# Altium schematic symbol library General.SchLib: 173 symbols (part 1 of 4)
Pins are listed as number, name and electrical type; pins without a type are passive.

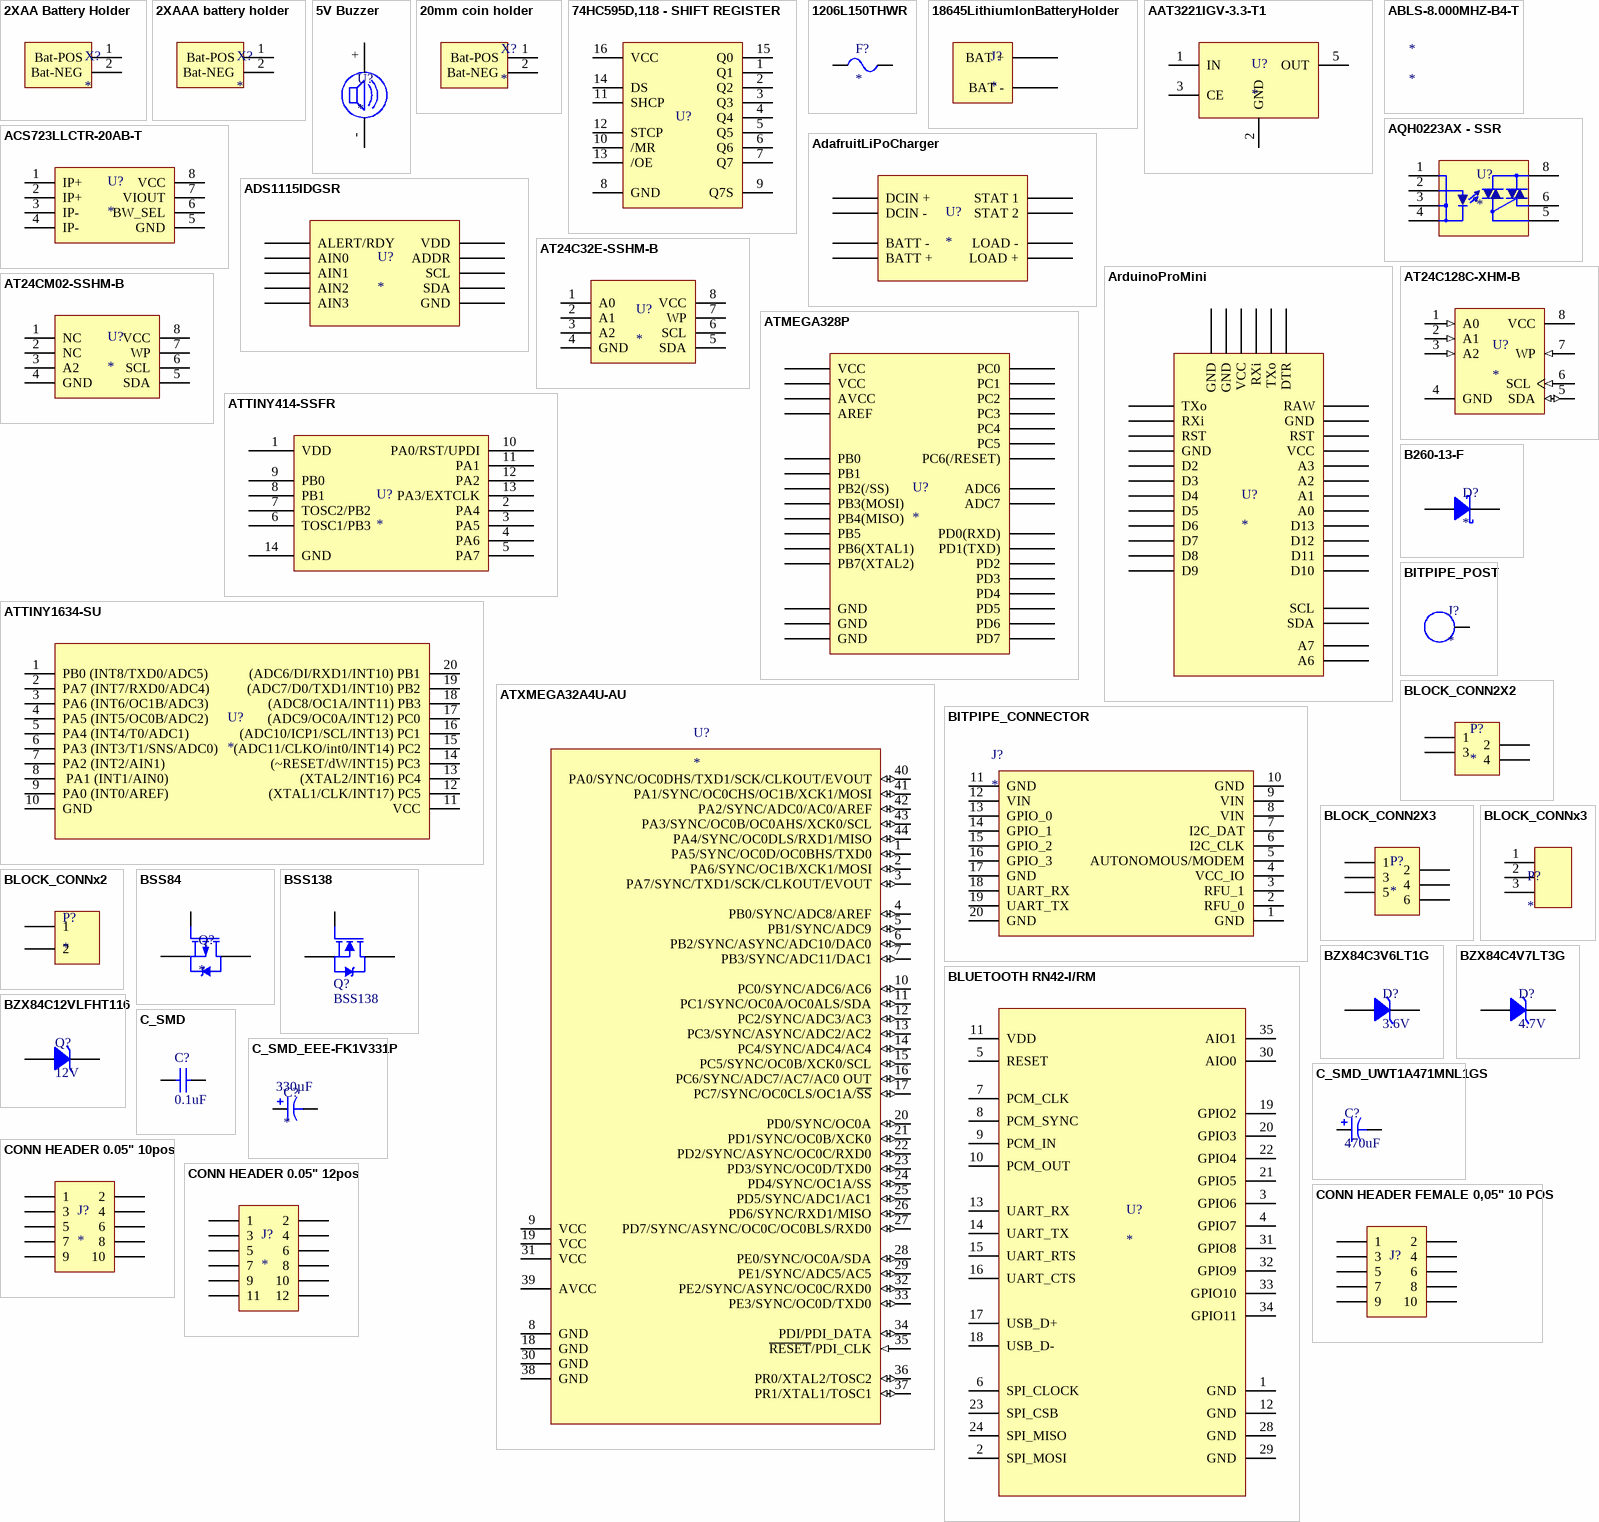
[diagram p0: symbols 2XAA Battery Holder to CONN HEADER FEMALE 0,05" 10 POS]

## 2XAA Battery Holder
designator X?
HOLDER BATT 2-AA CELLS PC MNT; Manufacturer: MPD (Memory Protection Devices); Manufacturer Part Number: BC2AAPC; Battery Type, Function: Cylindrical, Holder; Style: Holder (Open); Battery Cell Size: AA; Number of Cells: 2; Supplier 1: Digi-Key; RoHS: RoHS Compliant; Category: Battery Products; Stock 1: 43322; Pricing 1: 1=1.12, 10=1.022, 100=0.9292, 500=0.7979, 1000=0.7373 (USD); Part Status: Active; Battery Series: -; Mounting Type: PCB, Through Hole; Termination Style: PC Pin; Height Above Board: 0.591" (15.01mm); Operating Temperature: -10°C ~ 100°C; ComponentLink1URL: http://www.memoryprotectiondevices.com/datasheets/BC2AAPC-datasheet.pdf; ComponentLink1Description: http://www.memoryprotectiondevices.com/datasheets/BC2AAPC-datasheet.pdf; Supplier Part Number 1: BC2AAPC-ND
footprint 2xAA battery holder
pins: 1 Bat-POS, 2 Bat-NEG

## 2XAAA battery holder
designator X?
HOLDER BATTERY 2CELL AAA PC MNT; Manufacturer: Keystone Electronics; Manufacturer Part Number: 2468; Battery Type, Function: Cylindrical, Holder; Style: Holder (Open); Number of Cells: 2; Supplier 1: Digi-Key; RoHS: RoHS Compliant; Category: Battery Products; Stock 1: 5344; Pricing 1: 1=1.51, 10=0.968, 50=0.8728, 100=0.8349, 250=0.759, 500=0.6831, 1000=0.63748, 2500=0.56952, 5000=0.53449 (USD); Part Status: Active; Battery Cell Size: AAA; Battery Series: -; Mounting Type: PCB, Through Hole; Termination Style: PC Pin; Height Above Board: 0.512" (13.00mm); Operating Temperature: -; ComponentLink1URL: http://www.keyelco.com/product-pdf.cfm?p=1033; ComponentLink1Description: http://www.keyelco.com/product-pdf.cfm?p=1033; Supplier Part Number 1: 36-2468-ND
footprint 2xAAA battery holder
pins: 1 Bat-POS, 2 Bat-NEG

## 5V Buzzer
designator U?
AUDIO MAGNETIC INDICATOR 4-7V TH; Manufacturer: PUI Audio, Inc.; Manufacturer Part Number: AI-1223-TWT-5V-5-R; Driver Circuitry: Indicator, Internally Driven; Input Type: DC; Voltage Range: 4 ~ 7V; Frequency: 2.3kHz; Operating Mode: Single Tone; Sound Pressure Level (SPL): 85dB @ 5V, 10cm; Current - Supply: 30mA; Port Location: Top; Ratings: Washable; Supplier 1: Digi-Key; RoHS: RoHS Compliant; Category: Audio Products; Stock 1: 11924; Pricing 1: 1=1.41, 10=1.117, 25=1.0176, 50=0.9516, 100=0.8855, 250=0.80852, 500=0.7535, 1000=0.704, 5000=0.6875 (USD); Packaging: Tray; Part Status: Active; Technology: Magnetic; Duration: -; Operating Temperature: -20°C ~ 70°C; Approvals: -; Mounting Type: Through Hole; Termination: PC Pins; Size / Dimension: 0.472" Dia (12.00mm); Height - Seated (Max): 0.382" (9.70mm); ComponentLink1URL: http://www.puiaudio.com/pdf/AI-1223-TWT-5V-5-R.pdf; ComponentLink1Description: http://www.puiaudio.com/pdf/AI-1223-TWT-5V-5-R.pdf; Supplier Part Number 1: 668-1458-ND
footprint buzzer
pins: +, -

## 20mm coin holder
designator X?
HOLDER BATTERY 20MM COIN; Manufacturer: Linx Technologies Inc.; Manufacturer Part Number: BAT-HLD-001; Battery Type, Function: Coin Cell, Retainer; Style: Retainer; Battery Cell Size: Coin, 20.0mm; Number of Cells: 1; Battery Series: 2025, 2032; Supplier 1: Digi-Key; RoHS: RoHS Compliant; Category: Battery Products; Stock 1: 32677; Pricing 1: 1=0.28, 25=0.2568, 100=0.233, 1000=0.22875 (USD); Mounting Type: PCB, Surface Mount; Termination Style: SMD (SMT) Tab; Height Above Board: 0.165" (4.20mm); Operating Temperature: -; ComponentLink1URL: https://www.linxtechnologies.com/resources/diagrams/bat-hld-001.pdf; ComponentLink1Description: https://www.linxtechnologies.com/resources/diagrams/bat-hld-001.pdf; Supplier Part Number 1: BAT-HLD-001-ND
footprint coin-battery-holder
pins: 1 Bat-POS, 2 Bat-NEG

## 74HC595D,118 - SHIFT REGISTER
designator U?  (value not drawn)
IC SHIFT REGISTER 8BIT 16SOIC; Manufacturer: Nexperia USA Inc.; Manufacturer Part Number: 74HC595D,118; Output Type: Tri-State; Function: Serial to Parallel, Serial; Voltage - Supply: 2 V ~ 6 V; Supplier 1: Digi-Key; RoHS: RoHS Compliant; Category: Integrated Circuits (ICs); Stock 1: 160750; Pricing 1: 1=0.44, 10=0.334, 100=0.2132, 500=0.14998, 1000=0.1184 (USD); Packaging: Cut Tape (CT); Part Status: Active; Logic Type: Shift Register; Operating Temperature: -40°C ~ 125°C; Mounting Type: Surface Mount; Package / Case: 16-SOIC (0.154", 3.90mm Width); Supplier Device Package: 16-SO; Base Part Number: 74HC595; ComponentLink1URL: https://assets.nexperia.com/documents/data-sheet/74HC_HCT595.pdf; ComponentLink1Description: https://assets.nexperia.com/documents/data-sheet/74HC_HCT595.pdf; Supplier Part Number 1: 1727-2821-1-ND
footprint SO16_M (SOIC, 16-Leads, Body 9.90x3.90mm, Pitch 1.27mm, IPC Low Density)
footprint SO16_L (SOIC, 16-Leads, Body 9.90x3.90mm, Pitch 1.27mm, IPC High Density)
footprint SO16_N (SOIC, 16-Leads, Body 9.90x3.90mm, Pitch 1.27mm, IPC Medium Density)
pins: 1 Q1, 2 Q2, 3 Q3, 4 Q4, 5 Q5, 6 Q6, 7 Q7, 8 GND, 9 Q7S, 10 /MR, 11 SHCP, 12 STCP, 13 /OE, 14 DS, 15 Q0, 16 VCC

## 1206L150THWR
designator F?
FUSE PTC RESET 8V 1.50A 1206; Manufacturer: Littelfuse Inc; Manufacturer Part Number: 1206L150THWR; Current - Max: 100A; Current - Hold (Ih) (Max): 1.5A; Current - Trip (It): 3A; R Min/Max: 0.040 ~ 0.120 Ohm; Time to Trip: 0.3s; Supplier 1: Digi-Key; RoHS: RoHS Compliant; Category: Circuit Protection; Stock 1: 8140; Pricing 1: 1=0.49, 10=0.462, 25=0.4256, 50=0.3892, 100=0.3234, 250=0.294, 500=0.2492, 1000=0.2198 (USD); Packaging: Cut Tape (CT); Voltage - Max: 8V; Package / Case: 1206 (3216 Metric), Concave, Long Side Terminals; ComponentLink1URL: http://www.littelfuse.com/~/media/electronics/datasheets/resettable_ptcs/littelfuse_ptc_1206l_datasheet.pdf.pdf; ComponentLink1Description: http://www.littelfuse.com/~/media/electronics/datasheets/resettable_ptcs/littelfuse_ptc_1206l_datasheet.pdf.pdf; Supplier Part Number 1: F3372CT-ND
footprint R1206_L (Chip Resistor, 2-Leads, Body 3,13x1,55mm, IPC High Density)
footprint R1206_M (Chip Resistor, 2-Leads, Body 3,13x1,60mm, IPC Low Density)
footprint R1206_N (Chip Resistor, 2-Leads, Body 3,13x1,55mm, IPC Medium Density)
pins: 1, 2

## 18645LithiumIonBatteryHolder
designator J?
footprint 18650_lithium_ion_battery_holder
pins: + BAT +, - BAT -

## AAT3221IGV-3.3-T1
designator U?
IC REG LDO 3.3V 0.15A SOT23-5; Manufacturer: Skyworks Solutions Inc; Manufacturer Part Number: AAT3221IGV-3.3-T1; Regulator Topology: Positive Fixed; Current - Output: 150mA; Voltage - Dropout (Typical): 0.18V @ 100mA; Number of Regulators: 1; Voltage - Input: Up to 5.5V; Supplier 1: Digi-Key; RoHS: RoHS Compliant; Category: Integrated Circuits (ICs); Stock 1: 55137; Pricing 1: 1=0.17, 100=0.15 (USD); Packaging: Cut Tape (CT); Voltage - Output: 3.3V; Current - Limit (Min): -; Operating Temperature: -40°C ~ 85°C; Mounting Type: Surface Mount; Package / Case: SC-74A, SOT-753; Supplier Device Package: SOT-23-5; ComponentLink1URL: http://www.skyworksinc.com/uploads/documents/AAT3221_AAT3222_202251B.pdf; ComponentLink1Description: http://www.skyworksinc.com/uploads/documents/AAT3221_AAT3222_202251B.pdf; Supplier Part Number 1: 863-1491-1-ND
footprint SOT-23-OT5_L (SOT23, 5-Leads, Body 2.9x1.6mm, Pitch 0.95mm, Lead Span 2.7mm, IPC High Density)
footprint SOT-23-OT5_M (SOT23, 5-Leads, Body 2.9x1.6mm, Pitch 0.95mm, Lead Span 2.7mm, IPC Low Density)
footprint SOT-23-OT5_N (SOT23, 5-Leads, Body 2.9x1.6mm, Pitch 0.95mm, Lead Span 2.7mm, IPC Medium Density)
pins: 1 IN, 2 GND, 3 CE, 5 OUT

## ABLS-8.000MHZ-B4-T
designator *
CRYSTAL 8.0000MHZ 18PF SMD

## ACS723LLCTR-20AB-T
designator U?
SENSOR CURRENT HALL 20A AC/DC; Manufacturer: Allegro MicroSystems, LLC; Manufacturer Part Number: ACS723LLCTR-20AB-T; Sensor Type: Hall Effect, Open Loop; Output: Ratiometric, Voltage; Sensitivity: 100mV/A; Frequency: DC ~ 80kHz; Linearity: ±1%; Accuracy: ±3%; Voltage - Supply: 5V; Response Time: 5µs; Current - Supply (Max): 14mA; Polarization: Bidirectional; Supplier 1: Digi-Key; RoHS: RoHS Compliant; Category: Sensors, Transducers; Stock 1: 1390; Pricing 1: 1=5.54, 5=4.886, 10=4.316, 25=3.5012, 50=3.0942, 100=3.0128, 500=2.52426, 1000=2.3614 (USD); Packaging: Cut Tape (CT); Part Status: Active; For Measuring: AC/DC; Current - Sensing: 20A; Operating Temperature: -40°C ~ 150°C; Mounting Type: Surface Mount; Package / Case: 8-SOIC (0.154", 3.90mm Width); Supplier Device Package: 8-SOIC; ComponentLink1URL: https://www.allegromicro.com/~/media/Files/Datasheets/ACS723-Datasheet.ashx; ComponentLink1Description: https://www.allegromicro.com/~/media/Files/Datasheets/ACS723-Datasheet.ashx; Supplier Part Number 1: 620-1644-1-ND
footprint SOIC8_L (SOIC, 8-Leads, Body 4.90x3.90mm, Pitch 1.27mm, IPC High Density)
footprint SOIC8_M (SOIC, 8-Leads, Body 4.90x3.90mm, Pitch 1.27mm, IPC Low Density)
footprint SOIC8_N (SOIC, 8-Leads, Body 4.90x3.90mm, Pitch 1.27mm, IPC Medium Density)
pins: 1 IP+, 2 IP+, 3 IP-, 4 IP-, 5 GND, 6 BW_SEL, 7 VIOUT, 8 VCC

## AdafruitLiPoCharger
designator U?
footprint Adafruit_Lipo_Charger
pins: 1 LOAD +, 2 LOAD -, 3 STAT 2, 4 STAT 1, 5 BATT +, 6 BATT -, 7 DCIN -, 8 DCIN +

## ADS1115IDGSR
designator U?
IC ADC 16BIT 860SPS LP 10MSOP; Manufacturer: Texas Instruments; Manufacturer Part Number: ADS1115IDGSR; Number of Bits: 16; Sampling Rate (Per Second): 860; Number of Inputs: 2, 4; Input Type: Differential, Single Ended; Data Interface: I²C; Configuration: MUX-PGA-ADC; Number of A/D Converters: 1; Architecture: Sigma-Delta; Reference Type: Internal; Voltage - Supply, Analog: 2 V ~ 5.5 V; Supplier 1: Digi-Key; RoHS: RoHS Compliant; Category: Integrated Circuits (ICs); Stock 1: 3291; Pricing 1: 1=5.65, 10=5.074, 100=4.1576, 500=3.53928, 1000=2.98494 (USD); Packaging: Digi-Reel®; Part Status: Active; Ratio - S/H:ADC: -; Voltage - Supply, Digital: 2 V ~ 5.5 V; Features: PGA, Selectable Address; Operating Temperature: -40°C ~ 125°C; Package / Case: 10-TFSOP, 10-MSOP (0.118", 3.00mm Width); Supplier Device Package: 10-VSSOP; ComponentLink1URL: http://www.ti.com/lit/ds/symlink/ads1113.pdf; ComponentLink1Description: http://www.ti.com/lit/ds/symlink/ads1113.pdf; Supplier Part Number 1: 296-38849-6-ND
footprint VSSOP_10_L (TSSOP, 10-Leads, Body 3.00x3.00mm, Pitch 0.50mm, IPC High Density)
footprint VSSOP_10_M (TSSOP, 10-Leads, Body 3.00x3.00mm, Pitch 0.50mm, IPC Low Density)
footprint VSSOP_10_N (TSSOP, 10-Leads, Body 3.00x3.00mm, Pitch 0.50mm, IPC Medium Density)
pins: 1 ADDR, 2 ALERT/RDY, 3 GND, 4 AIN0, 5 AIN1, 6 AIN2, 7 AIN3, 8 VDD, 9 SDA, 10 SCL

## AQH0223AX - SSR
designator U?
SSR RELAY SPST-NO 300MA 0-600V; Manufacturer: Panasonic Electric Works; Manufacturer Part Number: AQH0223AX; Circuit: SPST-NO (1 Form A); Output Type: AC; Voltage - Input: 1.21VDC; Supplier 1: Digi-Key; RoHS: RoHS Compliant; Category: Relays; Stock 1: 940; Pricing 1: 1=1.06, 10=0.99, 25=0.88, 50=0.836, 100=0.792, 250=0.704, 500=0.66, 1000=0.616, 5000=0.594 (USD); Packaging: Tube; Part Status: Active; Mounting Type: Surface Mount; Termination Style: Gull Wing; Package / Case: 8-SMD (0.300", 7.62mm), 7 Leads; Supplier Device Package: 8-SMD; ComponentLink1URL: https://www3.panasonic.biz/ac/e_download/control/relay/solid-state/catalog/semi_eng_aqh.pdf; ComponentLink1Description: https://www3.panasonic.biz/ac/e_download/control/relay/solid-state/catalog/semi_eng_aqh.pdf; Supplier Part Number 1: 255-5993-ND
pins: 1 -, 2 -, 3 -, 4 -, 5 -, 6 -, 8 -

## ArduinoProMini
designator U?
footprint ArdunioProMini
pins: 1 D9, 2 D8, 3 D7, 4 D6, 5 D5, 6 D4, 7 D3, 8 D2, 9 GND, 10 RST, 11 RXi, 12 TXo, 13 GND, 14 GND, 15 VCC, 16 RXi, 17 TXo, 18 DTR, 19 RAW, 20 GND, 21 RST, 22 VCC, 23 A3, 24 A2, 25 A1, 26 A0, 27 D13, 28 D12, 29 D11, 30 D10, 31 A6, 32 A7, 33 SDA, 34 SCL

## AT24C32E-SSHM-B
designator U?
1.7-3.6V 1MHZ IND TMP 8-SOIC-N; Manufacturer: Atmel; Manufacturer Part Number: AT24C32E-SSHM-B; Format - Memory: EEPROMs - Serial; Memory Type: EEPROM; Memory Size: 32K (4K x 8); Speed: 400kHz, 1MHz; Interface: I²C, 2-Wire Serial; Voltage - Supply: 1.7 V ~ 3.6 V; Supplier 1: Digi-Key; RoHS: RoHS Compliant; Category: Integrated Circuits (ICs); Stock 1: 1215; Pricing 1: 1=0.42, 10=0.416, 25=0.3868, 50=0.3844, 100=0.3415, 250=0.33708, 500=0.33204, 1000=0.32315 (USD); Packaging: Tube; Operating Temperature: -40°C ~ 85°C (TC); Package / Case: 8-SOIC (0.154", 3.90mm Width); Supplier Device Package: 8-SOIC; ComponentLink1URL: http://www.atmel.com/Images/Atmel-8905-SEEPROM-AT24C32E-Datasheet.pdf; ComponentLink1Description: http://www.atmel.com/Images/Atmel-8905-SEEPROM-AT24C32E-Datasheet.pdf; Supplier Part Number 1: AT24C32E-SSHM-B-ND
footprint SOIC-8_N (SOIC, 8-Leads, Body 4.90x3.90mm, Pitch 1.27mm, IPC Medium Density)
pins: 1 A0, 2 A1, 3 A2, 4 GND, 5 SDA, 6 SCL, 7 WP, 8 VCC

## AT24C128C-XHM-B
designator U?
IC EEPROM 128KBIT 1MHZ 8TSSOP; Manufacturer: Atmel; Manufacturer Part Number: AT24C128C-XHM-B; Format - Memory: EEPROMs - Serial; Memory Size: 128K (16K x 8); Speed: 400kHz, 1MHz; Interface: I²C, 2-Wire Serial; Voltage - Supply: 1.7 V ~ 5.5 V; Supplier 1: Digi-Key; RoHS: RoHS Compliant; Category: Integrated Circuits (ICs); Stock 1: 6121; Pricing 1: 1=0.79, 10=0.717, 25=0.708, 50=0.704, 100=0.6294, 250=0.62392, 500=0.61484, 1000=0.59267 (USD); Packaging: Bulk; Memory Type: EEPROM; Operating Temperature: -40°C ~ 85°C; Package / Case: 8-TSSOP (0.173", 4.40mm Width); Supplier Device Package: 8-TSSOP; ComponentLink1URL: http://www.atmel.com/Images/doc8734.pdf; ComponentLink1Description: http://www.atmel.com/Images/doc8734.pdf; Supplier Part Number 1: AT24C128C-XHM-B-ND
footprint 8A2_L (TSOP, 8-Leads, Body 3x4.4mm, Pitch 0.65mm, IPC High Density)
footprint 8A2_M (TSOP, 8-Leads, Body 3x4.4mm, Pitch 0.65mm, IPC Low Density)
footprint 8A2_N (TSOP, 8-Leads, Body 3x4.4mm, Pitch 0.65mm, IPC Medium Density)
pins: 1 A0 (in), 2 A1 (in), 3 A2 (in), 4 GND (power), 5 SDA (io), 6 SCL (in), 7 WP (in), 8 VCC (power)

## AT24CM02-SSHM-B
designator U?
IC EEPROM 2M I2C 1MHZ 8SOIC; Manufacturer: Microchip Technology; Manufacturer Part Number: AT24CM02-SSHM-B; Memory Type: Non-Volatile; Memory Size: 2Mb (256K x 8); Write Cycle Time - Word, Page: 10ms; Memory Interface: I²C; Voltage - Supply: 1.7 V ~ 5.5 V; Supplier 1: Digi-Key; RoHS: RoHS Compliant; Category: Integrated Circuits (ICs); Stock 1: 6194; Pricing 1: 1=2.13, 10=1.913, 25=1.8824, 100=1.6776 (USD); Packaging: Tube; Part Status: Active; Memory Format: EEPROM; Technology: EEPROM; Operating Temperature: -40°C ~ 85°C (TC); Mounting Type: Surface Mount; Package / Case: 8-SOIC (0.154", 3.90mm Width); Supplier Device Package: 8-SOIC; Base Part Number: AT24CM02; ComponentLink1URL: http://www.microchip.com/mymicrochip/filehandler.aspx?ddocname=en589710; ComponentLink1Description: http://www.microchip.com/mymicrochip/filehandler.aspx?ddocname=en589710; Supplier Part Number 1: AT24CM02-SSHM-B-ND
footprint SOIC-8_N (SOIC, 8-Leads, Body 4.90x3.90mm, Pitch 1.27mm, IPC Medium Density)
pins: 1 NC, 2 NC, 3 A2, 4 GND, 5 SDA, 6 SCL, 7 WP, 8 VCC

## ATMEGA328P
designator U?
IC MCU 8BIT 32KB FLASH 32TQFP; Manufacturer: Microchip Technology; Manufacturer Part Number: ATMEGA328PB-AN; Core Processor: AVR; Core Size: 8-Bit; Speed: 20MHz; Connectivity: I²C, SPI, UART/USART; Peripherals: Brown-out Detect/Reset, POR, PWM, WDT; Program Memory Size: 32KB (16K x 16); EEPROM Size: 1K x 8; RAM Size: 2K x 8; Voltage - Supply (Vcc/Vdd): 1.8 V ~ 5.5 V; Data Converters: A/D 8x10b; Oscillator Type: Internal; Supplier 1: Digi-Key; RoHS: RoHS Compliant; Category: Integrated Circuits (ICs); Stock 1: 760; Pricing 1: 1=1.41, 25=1.298, 100=1.1742 (USD); Packaging: Tray; Part Status: Active; Program Memory Type: FLASH; Operating Temperature: -40°C ~ 105°C (TA); Package / Case: 32-TQFP; Supplier Device Package: 32-TQFP (7x7); Base Part Number: ATMEGA328; ComponentLink1URL: http://www.microchip.com/mymicrochip/filehandler.aspx?ddocname=en589666; ComponentLink1Description: http://www.microchip.com/mymicrochip/filehandler.aspx?ddocname=en589666; Supplier Part Number 1: ATMEGA328PB-AN-ND
footprint TQFP32_L (TQFP, 32-Leads, Body 7.00x7.00mm, Pitch 0.80mm, IPC High Density)
footprint TQFP32_M (TQFP, 32-Leads, Body 7.00x7.00mm, Pitch 0.80mm, IPC Low Density)
footprint TQFP32_N (TQFP, 32-Leads, Body 7.00x7.00mm, Pitch 0.80mm, IPC Medium Density)
pins: 1 PD3, 2 PD4, 3 GND, 4 VCC, 5 GND, 6 VCC, 7 PB6(XTAL1), 8 PB7(XTAL2), 9 PD5, 10 PD6, 11 PD7, 12 PB0, 13 PB1, 14 PB2(/SS), 15 PB3(MOSI), 16 PB4(MISO), 17 PB5, 18 AVCC, 19 ADC6, 20 AREF, 21 GND, 22 ADC7, 23 PC0, 24 PC1, 25 PC2, 26 PC3, 27 PC4, 28 PC5, 29 PC6(/RESET), 30 PD0(RXD), 31 PD1(TXD), 32 PD2

## ATTINY414-SSFR
designator U?
IC; Manufacturer: Microchip Technology; Manufacturer Part Number: ATTINY414-SSFR; Core Processor: AVR; Core Size: 8-Bit; Speed: 20MHz; Connectivity: I²C, IrDA, LINbus, SPI, UART/USART; Peripherals: Brown-out Detect/Reset, POR, WDT; Program Memory Size: 4KB (4K x 8); Program Memory Type: FLASH; EEPROM Size: 128 x 8; RAM Size: 256 x 8; Voltage - Supply (Vcc/Vdd): 1.8 V ~ 5.5 V; Data Converters: A/D 10x10b, D/A 1x8b; Oscillator Type: Internal; Supplier 1: Digi-Key; RoHS: RoHS Compliant; Category: Integrated Circuits (ICs); Stock 1: 1344; Pricing 1: 1=0.58, 25=0.5252, 100=0.4738 (USD); Packaging: Cut Tape (CT); Part Status: Active; Operating Temperature: -40°C ~ 125°C (TA); Package / Case: 14-SOIC (0.154", 3.90mm Width); Supplier Device Package: 14-SOIC; ComponentLink1URL: http://www.microchip.com/mymicrochip/filehandler.aspx?ddocname=en599397; ComponentLink1Description: http://www.microchip.com/mymicrochip/filehandler.aspx?ddocname=en599397; Supplier Part Number 1: ATTINY414-SSFRCT-ND
footprint SOIC14_L (SOIC, 14-Leads, Body 8.63x3.90mm, Pitch 1.27mm, IPC High Density)
footprint SOIC14_M (SOIC, 14-Leads, Body 8.63x3.90mm, Pitch 1.27mm, IPC Low Density)
footprint SOIC14_N (SOIC, 14-Leads, Body 8.63x3.90mm, Pitch 1.27mm, IPC Medium Density)
pins: 1 VDD, 2 PA4, 3 PA5, 4 PA6, 5 PA7, 6 TOSC1/PB3, 7 TOSC2/PB2, 8 PB1, 9 PB0, 10 PA0/RST/UPDI, 11 PA1, 12 PA2, 13 PA3/EXTCLK, 14 GND

## ATTINY1634-SU
designator U?
IC MCU 8BIT 16KB FLASH 20SOIC; Manufacturer: Atmel; Manufacturer Part Number: ATTINY1634-SU; Core Processor: AVR; Core Size: 8-Bit; Speed: 12MHz; Connectivity: I²C, SPI, UART/USART, USI; Peripherals: Brown-out Detect/Reset, POR, PWM, WDT; Number of I /O: 18; Program Memory Size: 16KB (16K x 8); EEPROM Size: 256 x 8; RAM Size: 1K x 8; Voltage - Supply (Vcc/Vdd): 1.8 V ~ 5.5 V; Data Converters: A/D 12x10b; Oscillator Type: Internal; Supplier 1: Digi-Key; RoHS: RoHS Compliant; Category: Integrated Circuits (ICs); Stock 1: 0; Pricing 1: 1=1.76, 25=1.12, 100=1 (USD); Packaging: Tube; Program Memory Type: FLASH; Operating Temperature: -40°C ~ 85°C; Package / Case: 20-SOIC (0.295", 7.50mm Width); ComponentLink1URL: http://www.atmel.com/Images/Atmel-8303-8-bit-AVR-Microcontroller-tinyAVR-ATtiny1634_Datasheet_summary.pdf; ComponentLink1Description: http://www.atmel.com/Images/Atmel-8303-8-bit-AVR-Microcontroller-tinyAVR-ATtiny1634_Datasheet_summary.pdf; Supplier Part Number 1: ATTINY1634-SU-ND
footprint SOIC20_L (SOIC, 20-Leads, Body 12,80x7,50mm, Pitch 1,27mm, IPC High Density)
footprint SOIC20_M (SOIC, 20-Leads, Body 12,80x7,50mm, Pitch 1,27mm, IPC Low Density)
footprint SOIC20_N (SOIC, 20-Leads, Body 12,80x7,50mm, Pitch 1,27mm, IPC Medium Density)
pins: 1 PB0 (INT8/TXD0/ADC5) , 2 PA7 (INT7/RXD0/ADC4) , 3 PA6 (INT6/OC1B/ADC3) , 4 PA5 (INT5/OC0B/ADC2) , 5 PA4 (INT4/T0/ADC1), 6 PA3 (INT3/T1/SNS/ADC0) , 7 PA2 (INT2/AIN1) , 8  PA1 (INT1/AIN0), 9 PA0 (INT0/AREF) , 10 GND, 11 VCC, 12 (XTAL1/CLK/INT17) PC5, 13 (XTAL2/INT16) PC4, 14 (~RESET/dW/INT15) PC3, 15 (ADC11/CLKO/int0/INT14) PC2, 16 (ADC10/ICP1/SCL/INT13) PC1, 17 (ADC9/OC0A/INT12) PC0, 18 (ADC8/OC1A/INT11) PB3, 19 (ADC7/D0/TXD1/INT10) PB2, 20 (ADC6/DI/RXD1/INT10) PB1

## ATXMEGA32A4U-AU
designator U?
IC MCU 8BIT 32KB FLASH 44TQFP; Manufacturer: Atmel; Manufacturer Part Number: ATXMEGA32A4U-AU; Core Processor: AVR; Core Size: 8/16-Bit; Speed: 32MHz; Connectivity: I²C, IrDA, SPI, UART/USART, USB; Peripherals: Brown-out Detect/Reset, DMA, POR, PWM, WDT; Number of I /O: 34; Program Memory Size: 32KB (16K x 16); EEPROM Size: 2K x 8; RAM Size: 4K x 8; Voltage - Supply (Vcc/Vdd): 1.6 V ~ 3.6 V; Data Converters: A/D 12x12b, D/A 2x12b; Oscillator Type: Internal; Supplier 1: Digi-Key; RoHS: RoHS Compliant; Category: Integrated Circuits (ICs); Stock 1: 2077; Pricing 1: 1=3.43, 25=2.1548, 100=1.9152 (USD); Packaging: Tray; Program Memory Type: FLASH; Operating Temperature: -40°C ~ 85°C; Package / Case: 44-TQFP; ComponentLink1URL: http://www.atmel.com/Images/Atmel-8387-8-and16-bit-AVR-Microcontroller-XMEGA-A4U_Datasheet.pdf; ComponentLink1Description: http://www.atmel.com/Images/Atmel-8387-8-and16-bit-AVR-Microcontroller-XMEGA-A4U_Datasheet.pdf; Supplier Part Number 1: ATXMEGA32A4U-AU-ND
footprint 44A_L (Thin QFP, 44-Leads, Body 10x10mm, Pitch 0.8mm, IPC High Density)
footprint 44A_M (Thin QFP, 44-Leads, Body 10x10mm, Pitch 0.8mm, IPC Low Density)
footprint 44A_N (Thin QFP, 44-Leads, Body 10x10mm, Pitch 0.8mm, IPC Medium Density)
pins: 1 PA5/SYNC/OC0D/OC0BHS/TXD0 (io), 2 PA6/SYNC/OC1B/XCK1/MOSI (io), 3 PA7/SYNC/TXD1/SCK/CLKOUT/EVOUT (io), 4 PB0/SYNC/ADC8/AREF (io), 5 PB1/SYNC/ADC9 (io), 6 PB2/SYNC/ASYNC/ADC10/DAC0 (io), 7 PB3/SYNC/ADC11/DAC1 (io), 8 GND (power), 9 VCC (power), 10 PC0/SYNC/ADC6/AC6 (io), 11 PC1/SYNC/OC0A/OC0ALS/SDA (io), 12 PC2/SYNC/ADC3/AC3 (io), 13 PC3/SYNC/ASYNC/ADC2/AC2 (io), 14 PC4/SYNC/ADC4/AC4 (io), 15 PC5/SYNC/OC0B/XCK0/SCL (io), 16 PC6/SYNC/ADC7/AC7/AC0 OUT (io), 17 PC7/SYNC/OC0CLS/OC1A/~{SS} (io), 18 GND (power), 19 VCC (power), 20 PD0/SYNC/OC0A (io), 21 PD1/SYNC/OC0B/XCK0 (io), 22 PD2/SYNC/ASYNC/OC0C/RXD0 (io), 23 PD3/SYNC/OC0D/TXD0 (io), 24 PD4/SYNC/OC1A/SS (io), 25 PD5/SYNC/ADC1/AC1 (io), 26 PD6/SYNC/RXD1/MISO (io), 27 PD7/SYNC/ASYNC/OC0C/OC0BLS/RXD0 (io), 28 PE0/SYNC/OC0A/SDA (io), 29 PE1/SYNC/ADC5/AC5 (io), 30 GND (power), 31 VCC (power), 32 PE2/SYNC/ASYNC/OC0C/RXD0 (io), 33 PE3/SYNC/OC0D/TXD0 (io), 34 PDI/PDI_DATA (io), 35 ~{RESET}/PDI_CLK (in), 36 PR0/XTAL2/TOSC2 (io), 37 PR1/XTAL1/TOSC1 (io), 38 GND (power), 39 AVCC (power), 40 PA0/SYNC/OC0DHS/TXD1/SCK/CLKOUT/EVOUT (io), 41 PA1/SYNC/OC0CHS/OC1B/XCK1/MOSI (io), 42 PA2/SYNC/ADC0/AC0/AREF (io), 43 PA3/SYNC/OC0B/OC0AHS/XCK0/SCL (io), 44 PA4/SYNC/OC0DLS/RXD1/MISO (io)

## B260-13-F
designator D?
DIODE SCHOTTKY 60V 2A SMB; Manufacturer: Diodes Incorporated; Manufacturer Part Number: B260-13-F; Voltage - Forward (Vf) (Max) @ If: 700mV @ 2A; Speed: Fast Recovery =< 500ns, > 200mA (Io); Current - Reverse Leakage @ Vr: 500µA @ 60V; Capacitance @ Vr, F: 200pF @ 4V, 1MHz; Supplier 1: Digi-Key; RoHS: RoHS Compliant; Category: Discrete Semiconductor Products; Stock 1: 37388; Pricing 1: 1=0.44, 10=0.33, 100=0.2055, 500=0.1406, 1000=0.10815 (USD); Packaging: Cut Tape (CT); Part Status: Active; Diode Type: Schottky; Voltage - DC Reverse (Vr) (Max): 60V; Current - Average Rectified (Io): 2A; Mounting Type: Surface Mount; Package / Case: DO-214AA, SMB; Supplier Device Package: SMB; Operating Temperature - Junction: -65°C ~ 150°C; ComponentLink1URL: https://www.diodes.com/assets/Datasheets/ds13004.pdf; ComponentLink1Description: https://www.diodes.com/assets/Datasheets/ds13004.pdf; Supplier Part Number 1: B260-FDICT-ND
footprint SMB_L (Molded Diode, 2-Leads, Body 4,41x3,62mm, IPC High Density)
footprint SMB_M (Molded Diode, 2-Leads, Body 4,41x3,62mm, IPC Low Density)
footprint SMB_N (Molded Diode, 2-Leads, Body 4,41x3,62mm, IPC Medium Density)
pins: 1 A, 2 K

## BITPIPE_CONNECTOR
designator J?
CONN HEADER .8MM 20POS SMD; Manufacturer: Panasonic Electric Works; Manufacturer Part Number: AXN420530S; Connector Type: Header, Outer Shroud Contacts; Number of Positions: 20; Pitch: 0.031" (0.80mm); Mated Stacking Heights: 5mm, 5.5mm, 8mm; Supplier 1: Digi-Key; RoHS: RoHS Compliant; Category: Connectors, Interconnects; Stock 1: 1619; Pricing 1: 1=3.3, 10=3.168, 25=2.904, 50=2.772, 100=2.64, 250=2.31, 500=2.244, 1000=1.914 (USD); Packaging: Tube; Part Status: Last Time Buy; Mounting Type: Surface Mount; Features: Board Guide; Contact Finish: Gold; Contact Finish Thickness: -; Height Above Board: 0.186" (4.72mm); ComponentLink1URL: https://media.digikey.com/pdf/Data%20Sheets/Panasonic%20Electric%20Works%20PDFs/AXN_3,4.pdf; ComponentLink1Description: https://media.digikey.com/pdf/Data%20Sheets/Panasonic%20Electric%20Works%20PDFs/AXN_3,4.pdf; Supplier Part Number 1: 255-4047-5-ND
footprint BitPipe_connector
pins: 1 GND, 2 RFU_0, 3 RFU_1, 4 VCC_IO, 5 AUTONOMOUS/MODEM, 6 I2C_CLK, 7 I2C_DAT, 8 VIN, 9 VIN, 10 GND, 11 GND, 12 VIN, 13 GPIO_0, 14 GPIO_1, 15 GPIO_2, 16 GPIO_3, 17 GND, 18 UART_RX, 19 UART_TX, 20 GND

## BITPIPE_POST
designator J?
ROUND STANDOFF M2 STEEL 5MM; Manufacturer: Wurth Electronics Inc.; Manufacturer Part Number: 9774050243R; Threaded/Unthreaded: Threaded; Screw, Thread Size: M2x0.4; Between Board Height: 0.197" (5.00mm); Plating: Tin; Supplier 1: Digi-Key; RoHS: RoHS Compliant; Category: Hardware, Fasteners, Accessories; Stock 1: 376; Pricing 1: 1=0.95, 10=0.918, 50=0.795, 100=0.739 (USD); Part Status: Active; Type: Round Standoff; Gender: -; Diameter - Inside: -; Diameter - Outside: 0.171" (4.35mm); Length - Overall: 0.252" (6.40mm); Features: Surface Mount; Material: Steel; Color: -; Weight: -; ComponentLink1URL: http://katalog.we-online.de/em/datasheet/9774050243R.pdf; ComponentLink1Description: http://katalog.we-online.de/em/datasheet/9774050243R.pdf; Supplier Part Number 1: 732-7097-1-ND
footprint BITPIPE_POST
pins: 1

## BLOCK_CONN2X2
designator P?
TERM BLOCK 2POS STACK 5.08MM PC; Manufacturer: TE Connectivity; Manufacturer Part Number: 796692-2; Number of Levels: 2; Pitch: 0.200" (5.08mm); Mating Orientation: Horizontal with Board; Current: 17.5A; Voltage: 300V; Wire Gauge: 12-30 AWG; Wire Termination: Screw - Rising Cage Clamp; Clamp Material - Plating: Brass - Tin Plated; Screw Material - Plating: Brass - Nickel Plated; Torque - Screw: 0.79 Nm (7.0 Lb-In); Screw Thread: M3; Supplier 1: Digi-Key; RoHS: RoHS Compliant; Category: Connectors, Interconnects; Stock 1: 978; Pricing 1: 1=2.66, 10=2.013, 25=1.866, 50=1.6778, 100=1.637, 250=1.43236, 500=1.30956, 1000=1.1868, 2500=1.06402 (USD); Packaging: Bulk; Positions Per Level: 2; Mounting Type: Through Hole; Features: Interlocking (Side); Color: Green; Operating Temperature: -; Housing Material: Polyamide (PA66), Nylon 6/6; Contact Material - Plating: Brass - Tin Plated; ComponentLink1URL: http://www.te.com/commerce/DocumentDelivery/DDEController?Action=srchrtrv&DocNm=796692&DocType=Customer+Drawing&DocLang=English; ComponentLink1Description: http://www.te.com/commerce/DocumentDelivery/DDEController?Action=srchrtrv&DocNm=796692&DocType=Customer+Drawing&DocLang=English; Supplier Part Number 1: A98450-ND
footprint block_conn 2 x 2
pins: 1, 2, 3, 4

## BLOCK_CONN2X3
designator P?
TERM BLOCK 3POS STACK 5.08MM PC; Manufacturer: TE Connectivity; Manufacturer Part Number: 796692-3; Number of Levels: 2; Positions Per Level: 3; Pitch: 0.200" (5.08mm); Mating Orientation: Horizontal with Board; Current: 17.5A; Voltage: 300V; Wire Gauge: 12-30 AWG; Wire Termination: Screw - Rising Cage Clamp; Clamp Material - Plating: Brass - Tin Plated; Screw Material - Plating: Brass - Nickel Plated; Torque - Screw: 0.79 Nm (7.0 Lb-In); Screw Thread: M3; Supplier 1: Digi-Key; RoHS: RoHS Compliant; Category: Connectors, Interconnects; Stock 1: 537; Pricing 1: 1=4.64, 25=3.312, 50=2.944, 100=2.88, 250=2.656, 500=2.4, 1000=2.128, 2500=2.04, 5000=2 (USD); Packaging: Bulk; Mounting Type: Through Hole; Features: Interlocking (Side); Color: Green; Operating Temperature: -; Housing Material: Polyamide (PA66), Nylon 6/6; Contact Material - Plating: Brass - Tin Plated; ComponentLink1URL: http://www.te.com/commerce/DocumentDelivery/DDEController?Action=srchrtrv&DocNm=796692&DocType=Customer+Drawing&DocLang=English; ComponentLink1Description: http://www.te.com/commerce/DocumentDelivery/DDEController?Action=srchrtrv&DocNm=796692&DocType=Customer+Drawing&DocLang=English; Supplier Part Number 1: A98266-ND
footprint block_conn 2 x 3
pins: 1, 2, 3, 4, 5, 6

## BLOCK_CONNx2
designator P?
TERM BLOCK 5.08MM VERT 2POS PCB; Manufacturer: On Shore Technology Inc; Manufacturer Part Number: OSTTC022162; Number of Levels: 1; Positions Per Level: 2; Pitch: 0.200" (5.08mm); Mating Orientation: Horizontal with Board; Current: 15A; Voltage: 300V; Wire Gauge: 14-22 AWG; Wire Termination: Screw - Leaf Spring, Wire Guard; Clamp Material - Plating: Steel, Stainless; Screw Material - Plating: Steel - Zinc Plated; Torque - Screw: 0.3 Nm (2.6 Lb-In); Screw Thread: M2.6; Supplier 1: Digi-Key; RoHS: RoHS Compliant; Category: Connectors, Interconnects; Stock 1: 37906; Pricing 1: 1=0.41, 10=0.385, 50=0.2806, 100=0.2695, 250=0.242, 500=0.231, 1000=0.1925, 2500=0.176, 5000=0.165 (USD); Packaging: Bulk; Mounting Type: Through Hole; Features: Interlocking (Side); Color: Blue; Operating Temperature: -30°C ~ 105°C; Housing Material: Thermoplastic; Contact Material - Plating: Tin Plated; ComponentLink1URL: http://www.on-shore.com/sites/default/files/manuals/osttcxx2162.pdf; ComponentLink1Description: http://www.on-shore.com/sites/default/files/manuals/osttcxx2162.pdf; Supplier Part Number 1: ED2609-ND
footprint BLOCK_CONNX2
pins: 1, 2

## BLOCK_CONNx3
designator P?
TERM BLOCK 5.08MM VERT 3POS PCB; Manufacturer: On Shore Technology Inc; Manufacturer Part Number: OSTTC032162; Number of Levels: 1; Positions Per Level: 3; Pitch: 0.200" (5.08mm); Mating Orientation: Horizontal with Board; Current: 15A; Voltage: 300V; Wire Gauge: 14-22 AWG; Wire Termination: Screw - Leaf Spring, Wire Guard; Clamp Material - Plating: Steel, Stainless; Screw Material - Plating: Steel - Zinc Plated; Torque - Screw: 0.3 Nm (2.6 Lb-In); Screw Thread: M2.6; Supplier 1: Digi-Key; RoHS: RoHS Compliant; Category: Connectors, Interconnects; Stock 1: 4040; Pricing 1: 1=0.51, 10=0.48, 50=0.384, 100=0.368, 250=0.336, 500=0.32, 1000=0.264, 2500=0.24, 5000=0.232 (USD); Packaging: Bulk; Mounting Type: Through Hole; Features: Interlocking (Side); Color: Blue; Operating Temperature: -30°C ~ 105°C; Housing Material: Thermoplastic; Contact Material - Plating: Tin Plated; ComponentLink1URL: http://www.on-shore.com/sites/default/files/manuals/osttcxx2162.pdf; ComponentLink1Description: http://www.on-shore.com/sites/default/files/manuals/osttcxx2162.pdf; Supplier Part Number 1: ED2610-ND
footprint BLOCK_CONNx3
pins: 1, 2, 3

## BLUETOOTH RN42-I/RM
designator U?
MODULE BLUETOOTH V2.1+EDR; Manufacturer: Microchip Technology; Manufacturer Part Number: RN42-I/RM; Frequency: 2.4GHz; Data Rate (Max): 3Mbps; Modulation or Protocol: Bluetooth v2.1+EDR, Class 2; Power - Output: 4dBm; Sensitivity: -80dBm; Voltage - Supply: 3 V ~ 3.6 V; Current - Receiving: 25mA; Data Interface: Pads for Pins; Antenna Connector: On-Board, Trace; Supplier 1: Digi-Key; RoHS: RoHS Compliant; Category: RF/IF and RFID; Stock 1: 1863; Pricing 1: 1=18.32, 10=15.27, 25=13.9624 (USD); Packaging: Tray; Applications: General Purpose; Current - Transmitting: 25mA; Memory Size: -; Operating Temperature: -40°C ~ 85°C; Package / Case: 35-SMD Module; ComponentLink1URL: http://www.microchip.com/mymicrochip/filehandler.aspx?ddocname=en558090; ComponentLink1Description: http://www.microchip.com/mymicrochip/filehandler.aspx?ddocname=en558090; Supplier Part Number 1: 740-1038-ND
footprint RN42
pins: 1 GND, 2 SPI_MOSI, 3 GPIO6, 4 GPIO7, 5 RESET, 6 SPI_CLOCK, 7 PCM_CLK, 8 PCM_SYNC, 9 PCM_IN, 10 PCM_OUT, 11 VDD, 12 GND, 13 UART_RX, 14 UART_TX, 15 UART_RTS, 16 UART_CTS, 17 USB_D+, 18 USB_D-, 19 GPIO2, 20 GPIO3, 21 GPIO5, 22 GPIO4, 23 SPI_CSB, 24 SPI_MISO, 28 GND, 29 GND, 30 AIO0, 31 GPIO8, 32 GPIO9, 33 GPIO10, 34 GPIO11, 35 AIO1

## BSS84
designator Q?
MOSFET P-CH 50V 130MA SOT-23; Manufacturer: Fairchild Semiconductor; Manufacturer Part Number: BSS84; FET Type: MOSFET P-Channel, Metal Oxide; FET Feature: Logic Level Gate; Current - Continuous Drain (Id) @ 25°C: 130mA (Ta); Rds On (Max) @ Id, Vgs: 10 Ohm @ 100mA, 5V; Vgs(th) (Max) @ Id: 2V @ 1mA; Gate Charge (Qg) @ Vgs: 1.3nC @ 5V; Input Capacitance (Ciss) @ Vds: 73pF @ 25V; Power - Max: 360mW; Supplier 1: Digi-Key; RoHS: RoHS Compliant; Category: Discrete Semiconductor Products; Stock 1: 131262; Pricing 1: 1=0.22, 10=0.198, 25=0.1428, 100=0.111, 250=0.06976, 500=0.05944, 1000=0.0405 (USD); Packaging: Cut Tape (CT); Drain to Source Voltage (Vdss): 50V; Mounting Type: Surface Mount; Package / Case: TO-236-3, SC-59, SOT-23-3; Supplier Device Package: SOT-23; ComponentLink1URL: http://www.fairchildsemi.com/ds/BS/BSS84.pdf; ComponentLink1Description: http://www.fairchildsemi.com/ds/BS/BSS84.pdf; Supplier Part Number 1: BSS84CT-ND
footprint SOT-23_L (SOT23, 3-Leads, Body 2.9x1.3mm, Pitch 0.95mm, Lead Span 2.5mm, IPC High Density)
footprint SOT-23_M (SOT23, 3-Leads, Body 2.9x1.3mm, Pitch 0.95mm, Lead Span 2.5mm, IPC Low Density)
footprint SOT-23_N (SOT23, 3-Leads, Body 2.9x1.3mm, Pitch 0.95mm, Lead Span 2.5mm, IPC Medium Density)
pins: 1 G, 2 S, 3 D

## BSS138
designator Q?
MOSFET N-CH 50V 220MA SOT-23; Manufacturer: Fairchild Semiconductor; FET Type: MOSFET N-Channel, Metal Oxide; FET Feature: Logic Level Gate; Current - Continuous Drain (Id) @ 25°C: 220mA (Ta); Rds On (Max) @ Id, Vgs: 3.5 Ohm @ 220mA, 10V; Vgs(th) (Max) @ Id: 1.5V @ 1mA; Gate Charge (Qg) @ Vgs: 2.4nC @ 10V; Input Capacitance (Ciss) @ Vds: 27pF @ 25V; Power - Max: 360mW; Supplier 1: Digi-Key; Manufacturer Part Number: BSS138; RoHS: RoHS Compliant; Category: Discrete Semiconductor Products; Stock 1: 168921; Pricing 1: 1=0.22, 10=0.196, 25=0.1408, 100=0.1096, 250=0.06884, 500=0.05868, 1000=0.03998 (USD); Packaging: Cut Tape (CT); Drain to Source Voltage (Vdss): 50V; Mounting Type: Surface Mount; Package / Case: TO-236-3, SC-59, SOT-23-3; Supplier Device Package: SOT-23; ComponentLink1URL: http://www.fairchildsemi.com/datasheets/BS/BSS138.pdf; ComponentLink1Description: http://www.fairchildsemi.com/datasheets/BS/BSS138.pdf; Supplier Part Number 1: BSS138CT-ND
footprint SOT23_N (SOT23, 3-Leads, Body 2.9x1.3mm, Pitch 0.95mm, Lead Span 2.3mm, IPC Medium Density)
footprint SOT23_M (SOT23, 3-Leads, Body 2.9x1.3mm, Pitch 0.95mm, Lead Span 2.3mm, IPC Low Density)
footprint SOT23_L (SOT23, 3-Leads, Body 2.9x1.3mm, Pitch 0.95mm, Lead Span 2.3mm, IPC High Density)
pins: 1 G, 2 S, 3 D

## BZX84C3V6LT1G
designator D?, comment 3.6V
DIODE ZENER 3.6V 225MW SOT23-3; Manufacturer: ON Semiconductor; Manufacturer Part Number: BZX84C3V6LT1G; Tolerance: ±6%; Supplier 1: Digi-Key; RoHS: RoHS Compliant; Category: Discrete Semiconductor Products; Stock 1: 8698; Pricing 1: 1=0.15, 10=0.135, 100=0.0735, 500=0.04522, 1000=0.03084 (USD); Packaging: Cut Tape (CT); Part Status: Active; Operating Temperature: -65°C ~ 150°C (TJ); Mounting Type: Surface Mount; Package / Case: TO-236-3, SC-59, SOT-23-3; Supplier Device Package: SOT-23-3 (TO-236); Base Part Number: BZX84C3V6; ComponentLink1URL: https://www.onsemi.com/pub/Collateral/BZX84C2V4LT1-D.PDF; ComponentLink1Description: https://www.onsemi.com/pub/Collateral/BZX84C2V4LT1-D.PDF; Supplier Part Number 1: BZX84C3V6LT1GOSCT-ND
footprint SOT23_L (SOT23, 3-Leads, Body 2.9x1.3mm, Pitch 0.95mm, Lead Span 2.3mm, IPC High Density)
footprint SOT23_M (SOT23, 3-Leads, Body 2.9x1.3mm, Pitch 0.95mm, Lead Span 2.3mm, IPC Low Density)
footprint SOT23_N (SOT23, 3-Leads, Body 2.9x1.3mm, Pitch 0.95mm, Lead Span 2.3mm, IPC Medium Density)
pins: 1 A, 3 K

## BZX84C4V7LT3G
designator D?, comment 4.7V
DIODE ZENER 4.7V 225MW SOT23-3; Manufacturer: ON Semiconductor; Manufacturer Part Number: BZX84C4V7LT3G; Tolerance: ±6%; Supplier 1: Digi-Key; RoHS: RoHS Compliant; Category: Discrete Semiconductor Products; Stock 1: 24835; Pricing 1: 1=0.14, 10=0.133, 100=0.073, 500=0.04532, 1000=0.03123 (USD); Packaging: Cut Tape (CT); Part Status: Active; Operating Temperature: -65°C ~ 150°C (TJ); Mounting Type: Surface Mount; Package / Case: TO-236-3, SC-59, SOT-23-3; Supplier Device Package: SOT-23-3 (TO-236); Base Part Number: BZX84C4V7; ComponentLink1URL: https://www.onsemi.com/pub/Collateral/BZX84C2V4LT1-D.PDF; ComponentLink1Description: https://www.onsemi.com/pub/Collateral/BZX84C2V4LT1-D.PDF; Supplier Part Number 1: BZX84C4V7LT3GOSCT-ND
footprint SOT23_L (SOT23, 3-Leads, Body 2.9x1.3mm, Pitch 0.95mm, Lead Span 2.3mm, IPC High Density)
footprint SOT23_M (SOT23, 3-Leads, Body 2.9x1.3mm, Pitch 0.95mm, Lead Span 2.3mm, IPC Low Density)
footprint SOT23_N (SOT23, 3-Leads, Body 2.9x1.3mm, Pitch 0.95mm, Lead Span 2.3mm, IPC Medium Density)
pins: 1 A, 3 K

## BZX84C12VLFHT116
designator Q?, comment 12V
ZENER DIODE (AEC-Q101 QUALIFIED); Manufacturer: Rohm Semiconductor; Manufacturer Part Number: BZX84C12VLFHT116; Tolerance: ±5.39%; Supplier 1: Digi-Key; RoHS: RoHS Compliant; Category: Discrete Semiconductor Products; Stock 1: 330; Pricing 1: 1=0.15, 10=0.14, 25=0.1276, 100=0.0918, 250=0.05404, 500=0.04486, 1000=0.03059 (USD); Packaging: Cut Tape (CT); Part Status: Active; Operating Temperature: 150°C (TJ); Mounting Type: Surface Mount; Package / Case: TO-236-3, SC-59, SOT-23-3; Supplier Device Package: SSD3; ComponentLink1URL: https://www.rohm.com/datasheet/BZX84C12VLFH/bzx84c12vlfht116-e; ComponentLink1Description: https://www.rohm.com/datasheet/BZX84C12VLFH/bzx84c12vlfht116-e; Supplier Part Number 1: BZX84C12VLFHT116CT-ND
footprint SOT23_L (SOT23, 3-Leads, Body 2.9x1.3mm, Pitch 0.95mm, Lead Span 2.3mm, IPC High Density)
footprint SOT23_M (SOT23, 3-Leads, Body 2.9x1.3mm, Pitch 0.95mm, Lead Span 2.3mm, IPC Low Density)
footprint SOT23_N (SOT23, 3-Leads, Body 2.9x1.3mm, Pitch 0.95mm, Lead Span 2.3mm, IPC Medium Density)
pins: 1 A, 3 K

## C_SMD
designator C?, comment 0.1uF
Value: 0.1uF
footprint C0603_L (Chip Capacitor, 2-Leads, Body 1,60x0,80mm, IPC High Density)
footprint C0603_M (Chip Capacitor, 2-Leads, Body 1,60x0,80mm, IPC Low Density)
footprint C0603_N (Chip Capacitor, 2-Leads, Body 1,60x0,80mm, IPC Medium Density)
footprint C0805_L (Chip Capacitor, 2-Leads, Body 2,00x1,25mm, IPC High Density)
footprint C0805_M (Chip Capacitor, 2-Leads, Body 2,00x1,25mm, IPC Low Density)
footprint C0805_N (Chip Capacitor, 2-Leads, Body 2,00x1,25mm, IPC Medium Density)
footprint C1206_L (Chip Capacitor, 2-Leads, Body 3,20x1,60mm, IPC High Density)
footprint C1206_M (Chip Capacitor, 2-Leads, Body 3,20x1,60mm, IPC Low Density)
footprint C1206_N (Chip Capacitor, 2-Leads, Body 3,20x1,60mm, IPC Medium Density)
pins: 1, 2

## C_SMD_EEE-FK1V331P
designator C?  Capacitance: 330µF
CAP ALUM 330UF 20% 35V SMD; Manufacturer: Panasonic Electronic Components; Manufacturer Part Number: EEE-FK1V331P; Lifetime @ Temp.: 2000 Hrs @ 105°C; Polarization: Polar; Ripple Current: 637.5mA @ 120Hz; Impedance: 80 mOhm; Surface Mount Land Size: 0.406" L x 0.406" W (10.30mm x 10.30mm); Supplier 1: Digi-Key; RoHS: RoHS Compliant; Category: Capacitors; Stock 1: 146238; Pricing 1: 1=0.8, 10=0.587, 25=0.5032, 50=0.4694, 100=0.4024, 250=0.36888 (USD); Packaging: Cut Tape (CT); Part Status: Active; Tolerance: ±20%; Voltage Rating: 35V; ESR (Equivalent Series Resistance): -; Operating Temperature: -55°C ~ 105°C; Applications: General Purpose; Lead Spacing: -; Size / Dimension: 0.394" Dia (10.00mm); Height - Seated (Max): 0.413" (10.50mm); Mounting Type: Surface Mount; Package / Case: Radial, Can - SMD; ComponentLink1URL: http://industrial.panasonic.com/www-cgi/jvcr13pz.cgi?E+PZ+3+ABA0120+EEEFK1V331P+7+WW; ComponentLink1Description: http://industrial.panasonic.com/www-cgi/jvcr13pz.cgi?E+PZ+3+ABA0120+EEEFK1V331P+7+WW; Supplier Part Number 1: PCE3841CT-ND
footprint CAP_Gsmd_M (Aluminum Electrolytic Capacitor, Body 10.20x10.20x10.50mm, IPC Low Density)
footprint CAP_Gsmd_N (Aluminum Electrolytic Capacitor, Body 10.20x10.20x10.50mm, IPC Medium Density)
footprint CAP_Gsmd_L (Aluminum Electrolytic Capacitor, Body 10.20x10.20x10.50mm, IPC High Density)
pins: 1, 2

## C_SMD_UWT1A471MNL1GS
designator C?, comment 470uF
CAP ALUM 470UF 20% 10V SMD; Manufacturer: Nichicon; Manufacturer Part Number: UWT1A471MNL1GS; Lifetime @ Temp.: 1000 Hrs @ 105°C; Polarization: Polar; Surface Mount Land Size: 0.327" L x 0.327" W (8.30mm x 8.30mm); Supplier 1: Digi-Key; RoHS: RoHS Compliant; Category: Capacitors; Stock 1: 647; Pricing 1: 1=0.51, 10=0.358, 100=0.236 (USD); Packaging: Cut Tape (CT); Part Status: Active; Tolerance: ±20%; ESR (Equivalent Series Resistance): -; Operating Temperature: -55°C ~ 105°C; Ratings: -; Applications: General Purpose; Lead Spacing: -; Size / Dimension: 0.315" Dia (8.00mm); Height - Seated (Max): 0.394" (10.00mm); Mounting Type: Surface Mount; Package / Case: Radial, Can - SMD; ComponentLink1URL: http://nichicon-us.com/english/products/pdfs/e-uwt.pdf; ComponentLink1Description: http://nichicon-us.com/english/products/pdfs/e-uwt.pdf; Supplier Part Number 1: 493-2169-1-ND
footprint C_ELECT_8X10_SMD_L (Aluminum Electrolytic Capacitor, Body 8.30x8.30x10.30mm, IPC High Density)
footprint C_ELECT_8X10_SMD_M (Aluminum Electrolytic Capacitor, Body 8.30x8.30x10.30mm, IPC Low Density)
footprint C_ELECT_8X10_SMD_N (Aluminum Electrolytic Capacitor, Body 8.30x8.30x10.30mm, IPC Medium Density)
pins: 1, 2

## CONN HEADER 0.05" 10pos
designator J?
CONN HEADER 10POS DL UNSHRD SMD; Manufacturer: Amphenol FCI; Manufacturer Part Number: 20021121-00010C4LF; Pitch - Mating: 0.050" (1.27mm); Number of Positions: 10; Number of Positions Loaded: All; Style: Board to Board; Shrouding: Unshrouded; Contact Length - Mating: 0.120" (3.05mm); Material Flammability Rating: UL94 V-0; Supplier 1: Digi-Key; RoHS: RoHS Compliant; Category: Connectors, Interconnects; Stock 1: 91199; Pricing 1: 1=0.9, 10=0.797, 100=0.6951 (USD); Packaging: Cut Tape (CT); Part Status: Active; Connector Type: Header; Contact Type: Male Pin; Number of Rows: 2; Row Spacing - Mating: 0.050" (1.27mm); Mounting Type: Surface Mount; Termination: Solder; Fastening Type: Push-Pull; Contact Length - Post: -; Overall Contact Length: -; Insulation Height: -; Contact Shape: Square; Contact Finish - Mating: Gold; Contact Finish Thickness - Mating: 10.0µin (0.25µm); Contact Finish - Post: Tin; Contact Material: Copper Alloy; Insulation Material: Thermoplastic; Features: Pick and Place; Operating Temperature: -; Ingress Protection: -; Insulation Color: Black; Current Rating: -; Voltage Rating: -; Mated Stacking Heights: -; Contact Finish Thickness - Post: 50.0µin (1.27µm); Applications: -; ComponentLink1URL: https://cdn.amphenol-icc.com/media/wysiwyg/files/drawing/20021121.pdf; ComponentLink1Description: https://cdn.amphenol-icc.com/media/wysiwyg/files/drawing/20021121.pdf; Supplier Part Number 1: 609-3695-1-ND
footprint conn 10 0.05"
pins: 1, 2, 3, 4, 5, 6, 7, 8, 9, 10

## CONN HEADER 0.05" 12pos
designator J?
CONN HEADER 12POS DL UNSHRD SMD; Manufacturer: Amphenol FCI; Manufacturer Part Number: 20021121-00012C4LF; Pitch - Mating: 0.050" (1.27mm); Number of Positions: 12; Number of Positions Loaded: All; Style: Board to Board; Shrouding: Unshrouded; Contact Length - Mating: 0.120" (3.05mm); Material Flammability Rating: UL94 V-0; Supplier 1: Digi-Key; RoHS: RoHS Compliant; Category: Connectors, Interconnects; Stock 1: 1316; Pricing 1: 1=1.01, 10=0.886, 100=0.7645 (USD); Packaging: Cut Tape (CT); Part Status: Active; Connector Type: Header; Contact Type: Male Pin; Number of Rows: 2; Row Spacing - Mating: 0.050" (1.27mm); Mounting Type: Surface Mount; Termination: Solder; Fastening Type: Push-Pull; Contact Length - Post: -; Overall Contact Length: -; Insulation Height: -; Contact Shape: Square; Contact Finish - Mating: Gold; Contact Finish Thickness - Mating: 10.0µin (0.25µm); Contact Finish - Post: Tin; Contact Material: Copper Alloy; Insulation Material: Thermoplastic; Features: Pick and Place; Operating Temperature: -; Ingress Protection: -; Insulation Color: Black; Current Rating: -; Voltage Rating: -; Mated Stacking Heights: -; Contact Finish Thickness - Post: 50.0µin (1.27µm); Applications: -; ComponentLink1URL: https://cdn.amphenol-icc.com/media/wysiwyg/files/drawing/20021121.pdf; ComponentLink1Description: https://cdn.amphenol-icc.com/media/wysiwyg/files/drawing/20021121.pdf; Supplier Part Number 1: 609-3696-1-ND
footprint CONN 12 0.05"
pins: 1, 2, 3, 4, 5, 6, 7, 8, 9, 10, 11, 12

## CONN HEADER FEMALE 0,05" 10 POS
designator J?  (value not drawn)
CONN RCPT 10POS 0.05 GOLD PCB; Manufacturer: Amphenol FCI; Manufacturer Part Number: 20021311-00010T4LF; Connector Type: Receptacle; Style: Board to Board; Number of Positions: 10; Number of Positions Loaded: All; Pitch - Mating: 0.050" (1.27mm); Contact Length - Post: 0.094" (2.40mm); Material Flammability Rating: UL94 V-0; Supplier 1: Digi-Key; RoHS: RoHS Compliant; Category: Connectors, Interconnects; Stock 1: 17704; Pricing 1: 1=0.92, 86=0.73849, 172=0.70895, 516=0.59081, 1032=0.53172, 5074=0.47264, 10062=0.45196 (USD); Packaging: Tube; Part Status: Active; Contact Type: Female Socket; Row Spacing - Mating: 0.050" (1.27mm); Mounting Type: Through Hole; Termination: Solder; Fastening Type: Push-Pull; Contact Finish - Mating: Gold; Contact Finish Thickness - Mating: 10.0µin (0.25µm); Insulation Color: Black; Insulation Height: 0.173" (4.40mm); Operating Temperature: -40°C ~ 105°C; Contact Finish - Post: Tin; Mated Stacking Heights: -; Ingress Protection: -; Features: -; Current Rating: -; Voltage Rating: -; Applications: General Purpose, Industrial, Telecommunications; Insulation Material: Plastic; Contact Shape: Square; Contact Material: Phosphor Bronze; Contact Finish Thickness - Post: 100.0µin (2.54µm); ComponentLink1URL: https://cdn.amphenol-icc.com/media/wysiwyg/files/drawing/20021311.pdf; ComponentLink1Description: https://cdn.amphenol-icc.com/media/wysiwyg/files/drawing/20021311.pdf; Supplier Part Number 1: 609-3754-ND
footprint CONN TH 0.05" 10POS
pins: 1, 2, 3, 4, 5, 6, 7, 8, 9, 10

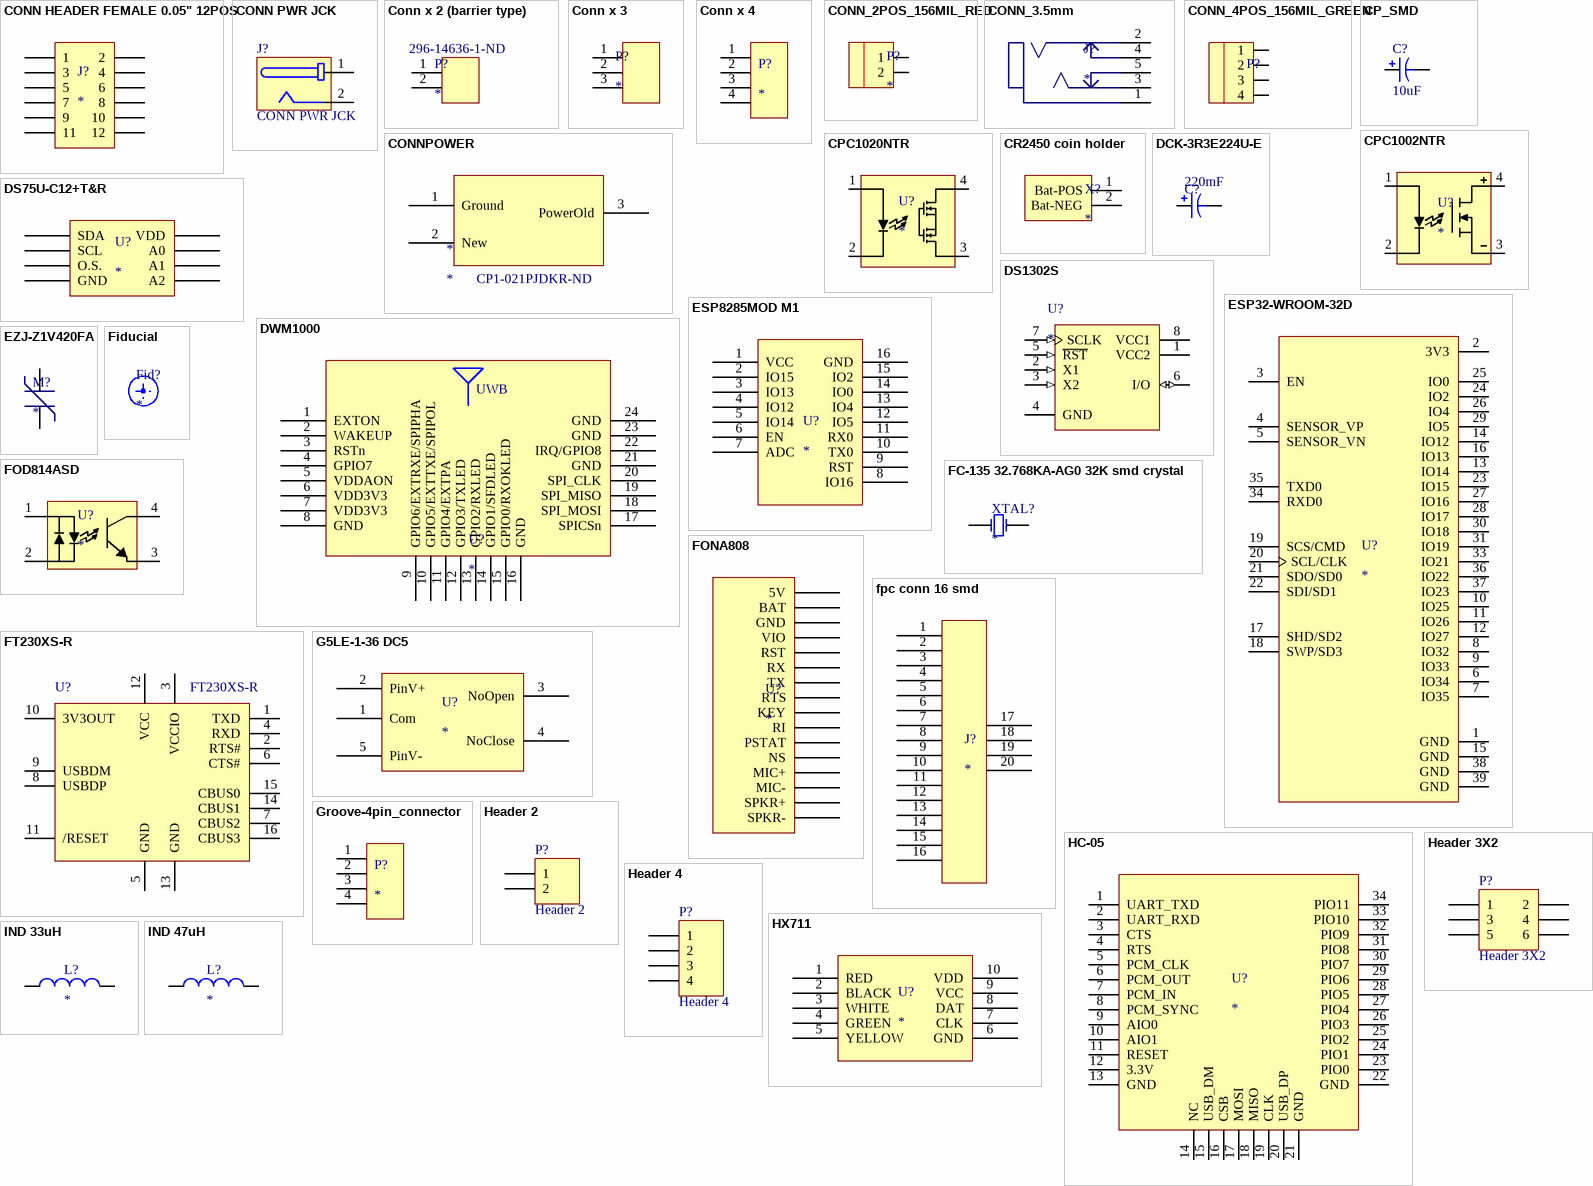
[diagram p1: symbols CONN HEADER FEMALE 0.05" 12POS to IND 47uH]

## CONN HEADER FEMALE 0.05" 12POS
designator J?
CONN RCPT 12POS 0.05 GOLD PCB; Manufacturer: Amphenol FCI; Manufacturer Part Number: 20021311-00012T4LF; Connector Type: Receptacle; Style: Board to Board; Number of Positions: 12; Number of Positions Loaded: All; Pitch - Mating: 0.050" (1.27mm); Contact Length - Post: 0.094" (2.40mm); Material Flammability Rating: UL94 V-0; Supplier 1: Digi-Key; RoHS: RoHS Compliant; Category: Connectors, Interconnects; Stock 1: 2755; Pricing 1: 1=1.03, 73=0.81603, 146=0.78055, 511=0.63865, 1022=0.56768, 5037=0.49672, 10001=0.47188 (USD); Packaging: Tube; Part Status: Active; Contact Type: Female Socket; Row Spacing - Mating: 0.050" (1.27mm); Mounting Type: Through Hole; Termination: Solder; Fastening Type: Push-Pull; Contact Finish - Mating: Gold; Contact Finish Thickness - Mating: 10.0µin (0.25µm); Insulation Color: Black; Insulation Height: 0.173" (4.40mm); Operating Temperature: -40°C ~ 105°C; Contact Finish - Post: Tin; Mated Stacking Heights: -; Ingress Protection: -; Features: -; Current Rating: -; Voltage Rating: -; Applications: General Purpose, Industrial, Telecommunications; Insulation Material: Plastic; Contact Shape: Square; Contact Material: Phosphor Bronze; Contact Finish Thickness - Post: 100.0µin (2.54µm); ComponentLink1URL: https://cdn.amphenol-icc.com/media/wysiwyg/files/drawing/20021311.pdf; ComponentLink1Description: https://cdn.amphenol-icc.com/media/wysiwyg/files/drawing/20021311.pdf; Supplier Part Number 1: 609-3755-ND
footprint CONN TH 0.05" 12POS
pins: 1, 2, 3, 4, 5, 6, 7, 8, 9, 10, 11, 12

## CONN PWR JCK
designator J?
CON PWR JCK 2.0 X 6.5MM W/O SW; Manufacturer: CUI Inc; Manufacturer Part Number: PJ-037A; Connector Type: Jack; Gender: Male; Plug/Mating Plug Diameter: 2.1mm ID, 5.5mm OD; Number of Positions/Contacts: 2 Conductors, 2 Contacts; Internal Switch(s): Does Not Contain Switch; Shielding: Unshielded; Voltage - Rated: 16VDC; Current Rating: 2.5A; Supplier 1: Digi-Key; RoHS: RoHS Compliant; Category: Connectors, Interconnects; Stock 1: 1843; Pricing 1: 1=0.91, 10=0.634, 100=0.4254, 500=0.3439, 1000=0.3077, 2500=0.24435 (USD); Mounting Type: Through Hole, Right Angle; Termination: Solder Eyelet(s); Features: -; Color: Black; Contact Material: Copper; Contact Material - Plating: Nickel; Housing Color: Black; Housing Material: Thermoplastic; Operating Temperature: -; ComponentLink1URL: http://www.cui.com/product/resource/digikeypdf/pj-037a.pdf; ComponentLink1Description: http://www.cui.com/product/resource/digikeypdf/pj-037a.pdf; Supplier Part Number 1: CP-037A-ND
footprint CONN_BARREL_PWR
pins: 1, 2